# Altium footprint library MC32603.PcbLib: 1 footprints
Each footprint in its own frame and in the unit in brackets; x right, y up, seen from the top. Pads: shape width x height; smd on the part's side, far side on the other; paste and mask are expansions set on the pad; w line width, h text height; cw(c..) or ccw(c..) is an arc to the next point about the centre after c.
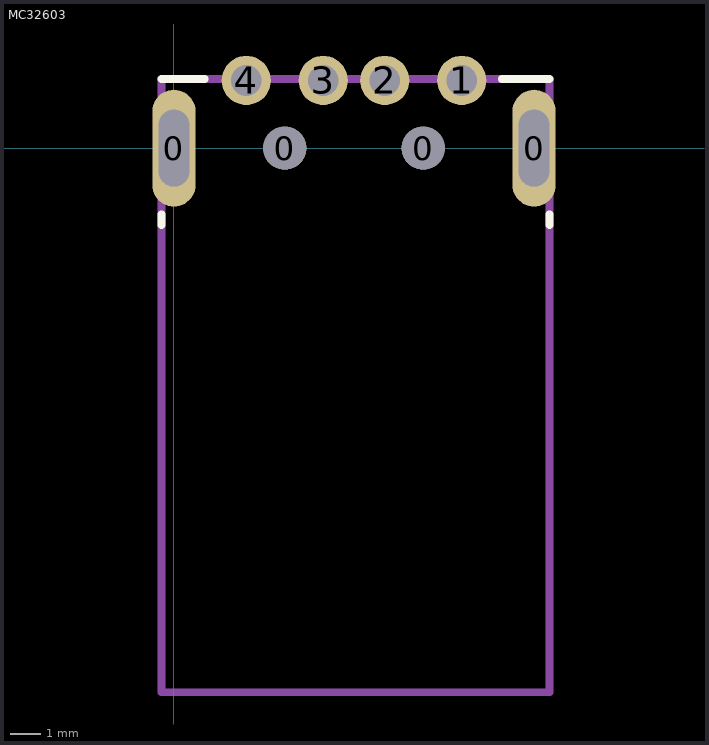
[diagram p0: the footprint, top view; thin cyan lines are the x and y axes]

## MC32603 [mm]
pads (8):
  oval 1.4x3.8 hole 1 slot 2.5 at 90 deg: 0(0,0) 0(11.7,0)
  round 1.4 hole 1.4 unplated: 0(3.6,0) 0(8.1,0)
  round 1.6 hole 1: 1(9.35,2.2) 2(6.85,2.2) 3(4.85,2.2) 4(2.35,2.2)
Top Overlay:
  lines w0.254: -0.403,-2.15 -0.4,-2.5 ; -0.403,2.25 1,2.25 ; 10.65,2.25 12.203,2.25 ; 12.2,-2.15 12.203,-2.5
Mechanical 2 (Mech3):
  lines w0.254: -0.403,-17.675 -0.403,2.25 12.203,2.25 12.203,-17.675 -0.403,-17.675
3D body "usb_a-usb_a-lp-c.stp": height 3.3, standoff -2.5, extent -0.403,-17.675 12.203,2.25